# EAGLE library part 610010243021 (library Wuerth_Elektronik_eiCan_Pin_&_Socked_Headers_v1.3)
WR-PHD 2.54mm SMT Dual Socket Header Bottom Entry, 10 Pins
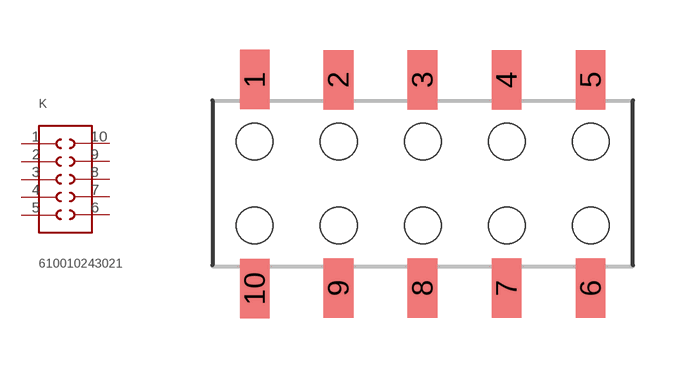
[diagram p220: symbol with the pads of 610010243021; footprint 610010243021]

Designator prefix K

## 610010243021  [610010243021]
1  1  pas
2  2  pas
3  3  pas
4  4  pas
5  5  pas
6  6  pas
7  7  pas
8  8  pas
9  9  pas
10  10  pas

## Footprint 610010243021 (pad centres in mm)
WR-PHD 2.54mm SMT Dual Socket Header Bottom Entry, 10 Pins
smd 0.9 x 1.8: 1 -5.08,3.15; 2 -2.55,3.14; 3 -0.01,3.14; 4 2.53,3.14; 5 5.07,3.14; 6 5.07,-3.16; 7 2.53,-3.16; 8 -0.01,-3.16; 9 -2.55,-3.16; 10 -5.08,-3.17
hole 1.1 at -5.08,1.27
hole 1.1 at -2.54,1.27
hole 1.1 at -2.54,-1.27
hole 1.1 at -5.08,-1.27
hole 1.1 at 0,1.27
hole 1.1 at 0,-1.27
hole 1.1 at 2.54,1.27
hole 1.1 at 2.54,-1.27
hole 1.1 at 5.08,1.27
hole 1.1 at 5.08,-1.27